# Altium schematic symbol library T35-V2.SchLib: 13 symbols
Pins are listed as number, name and electrical type; pins without a type are passive.

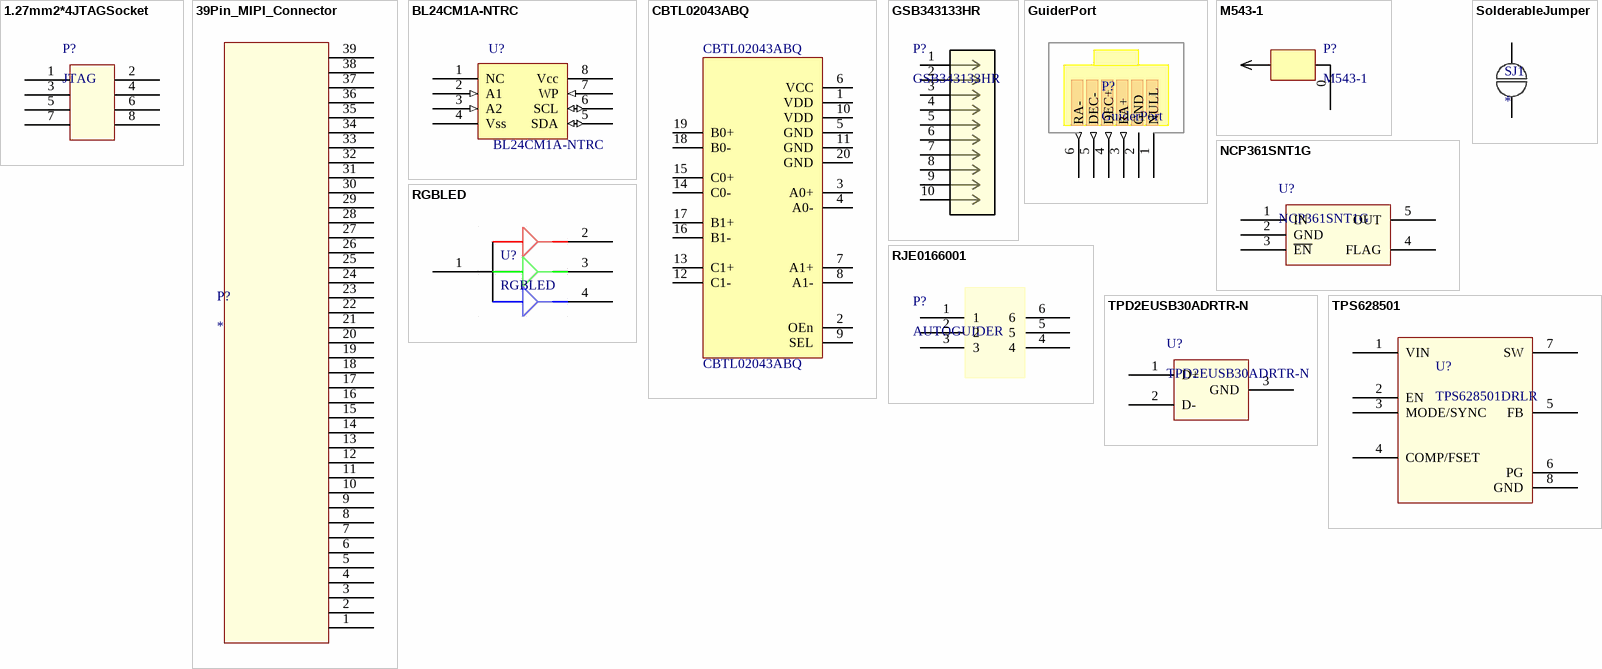
[diagram p0: symbols 1.27mm2*4JTAGSocket to TPS628501]

## 1.27mm2*4JTAGSocket
designator P?, comment JTAG
pins: 1, 2, 3, 4, 5, 6, 7, 8

## 39Pin_MIPI_Connector
designator P?
pins: 1, 2, 3, 4, 5, 6, 7, 8, 9, 10, 11, 12, 13, 14, 15, 16, 17, 18, 19, 20, 21, 22, 23, 24, 25, 26, 27, 28, 29, 30, 31, 32, 33, 34, 35, 36, 37, 38, 39

## BL24CM1A-NTRC
designator U?
EEPROM; Text Field1: 60; Text Field2: 50
footprint S0-8
footprint SO-8
pins: 1 NC, 2 A1 (in), 3 A2 (in), 4 Vss (power), 5 SDA (io), 6 SCL (io), 7 WP (in), 8 Vcc (power)

## CBTL02043ABQ
designator CBTL02043ABQ
USB3.0选通芯片; Value: HD3SS3212RKSR
footprint VQFN-20
pins: 1 VDD, 2 OEn, 3 A0+, 4 A0-, 5 GND, 6 VCC, 7 A1+, 8 A1-, 9 SEL, 10 VDD, 11 GND, 12 C1-, 13 C1+, 14 C0-, 15 C0+, 16 B1-, 17 B1+, 18 B0-, 19 B0+, 20 GND

## GSB343133HR
designator P?
No Description Available; Mfr_Name: Amphenol ICC; Copyright: Copyright (C) 2022 Ultra Librarian. All rights reserved.; Manufacturer_Part_Number: GSB343133HR; RefDes: RefDes; Type: DEV
footprint CONN_343133HR_AMP
pins: 1, 2, 3, 4, 5, 6, 7, 8, 9, 10

## GuiderPort
designator P?
pins: 1 NULL, 2 GND (power), 3 RA+ (out), 4 DEC+ (out), 5 DEC- (out), 6 RA- (out)

## M543-1
designator P?
弹簧针
pins: 0

## NCP361SNT1G
designator U?
pins: 1 IN, 2 GND, 3 ~{EN}, 4 FLAG, 5 OUT

## RGBLED
designator U?
RGB三色LED灯
pins: 1, 2 R, 3 G, 4 B

## RJE0166001
designator P?, comment AUTOGUIDER
No Description Available; Mfr_Name: Amphenol ICC; Manufacturer_Part_Number: RJE0166001; Copyright: Copyright (C) 2022 Ultra Librarian. All rights reserved.; RefDes: RefDes; Type: DEV
footprint RJE0166001_AMP
pins: 1, 2, 3, 4, 5, 6

## SolderableJumper
designator SJ1
footprint SJ
pins: 1, 2

## TPD2EUSB30ADRTR-N
designator U?
pins: 1 D+, 2 D-, 3 GND

## TPS628501
designator U?, comment TPS628501DRLR
footprint SOT583
pins: 1 VIN, 2 EN, 3 MODE/SYNC, 4 COMP/FSET, 5 FB, 6 PG, 7 SW, 8 GND